# Altium footprint library MQFP-44_10x10x08P.PcbLib: 1 footprints
Each footprint in its own frame and in the unit in brackets; x right, y up, seen from the top. Pads: shape width x height; smd on the part's side, far side on the other; paste and mask are expansions set on the pad; w line width, h text height; cw(c..) or ccw(c..) is an arc to the next point about the centre after c.
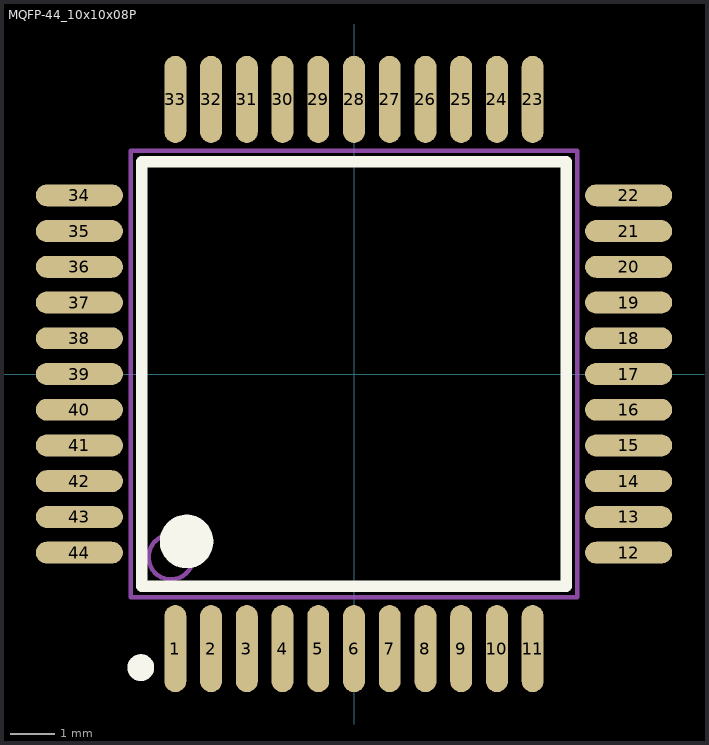
[diagram p0: the footprint, top view; thin cyan lines are the x and y axes]

## MQFP-44_10x10x08P [mm]
pads (44):
  oval 0.49x1.95 smd: 1(-4,-6.15) 2(-3.2,-6.15) 3(-2.4,-6.15) 4(-1.6,-6.15) 5(-0.8,-6.15) 6(0,-6.15) 7(0.8,-6.15) 8(1.6,-6.15) 9(2.4,-6.15) 10(3.2,-6.15) 11(4,-6.15) 23(4,6.15) 24(3.2,6.15) 25(2.4,6.15) 26(1.6,6.15) 27(0.8,6.15) 28(0,6.15) 29(-0.8,6.15) 30(-1.6,6.15) 31(-2.4,6.15) 32(-3.2,6.15) 33(-4,6.15)
  oval 1.95x0.49 smd: 12(6.15,-4) 13(6.15,-3.2) 14(6.15,-2.4) 15(6.15,-1.6) 16(6.15,-0.8) 17(6.15,0) 18(6.15,0.8) 19(6.15,1.6) 20(6.15,2.4) 21(6.15,3.2) 22(6.15,4) 34(-6.15,4) 35(-6.15,3.2) 36(-6.15,2.4) 37(-6.15,1.6) 38(-6.15,0.8) 39(-6.15,0) 40(-6.15,-0.8) 41(-6.15,-1.6) 42(-6.15,-2.4) 43(-6.15,-3.2) 44(-6.15,-4)
Top Overlay:
  circle w0.6: c-3.75,-3.75 r0.3
  circle w0.3: c-4.775,-6.575 r0.15
  lines w0.254: -4.75,-4.75 -4.75,4.75 4.75,4.75 4.75,-4.75 -4.75,-4.75
Mechanical 13:
  circle w0.1: c-4.1,-4.1 r0.5
  lines w0.1: -5,-5 -5,5 5,5 5,-5 -5,-5